# EAGLE library part 22-23-2071 (library EW_Connectors)
.100" (2.54mm) Center Header - 7 Pin
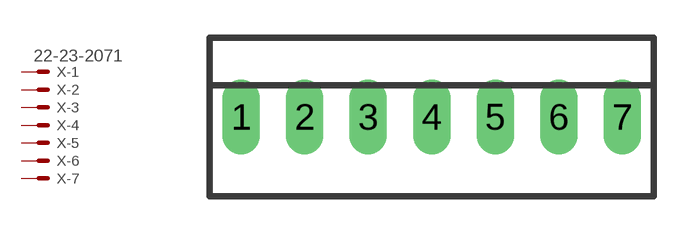
[diagram p110: symbol with the pads of 22-23-2071; footprint 22-23-2071]

Designator prefix X; gates -1=MV-8 -2=M-23 -3=M-23 -4=M-23 -5=M-23 -6=M-23 -7=M-23

## 22-23-2071 (MF: MOLEX; MPN: 22-23-2071; OC_FARNELL: 1654534; OC_NEWARK: 56H0445)  [22-23-2071]
1  -1:S  pas
2  -2:S  pas
3  -3:S  pas
4  -4:S  pas
5  -5:S  pas
6  -6:S  pas
7  -7:S  pas

## Footprint 22-23-2071 (pad centres in mm)
KK® 254 Solid Header, Vertical, with Friction Lock, 7 Circuits, Tin (Sn) Plating Datasheet <http://www.molex.com/pdm_docs/sd/022232071_sd.pdf>
drill 1 long: 1 -7.62,0; 2 -5.08,0; 3 -2.54,0; 4 0,0; 5 2.54,0; 6 5.08,0; 7 7.62,0